# Altium footprint library RES100.PcbLib: 1 footprints
Each footprint in its own frame and in the unit in brackets; x right, y up, seen from the top. Pads: shape width x height; smd on the part's side, far side on the other; paste and mask are expansions set on the pad; w line width, h text height; cw(c..) or ccw(c..) is an arc to the next point about the centre after c.
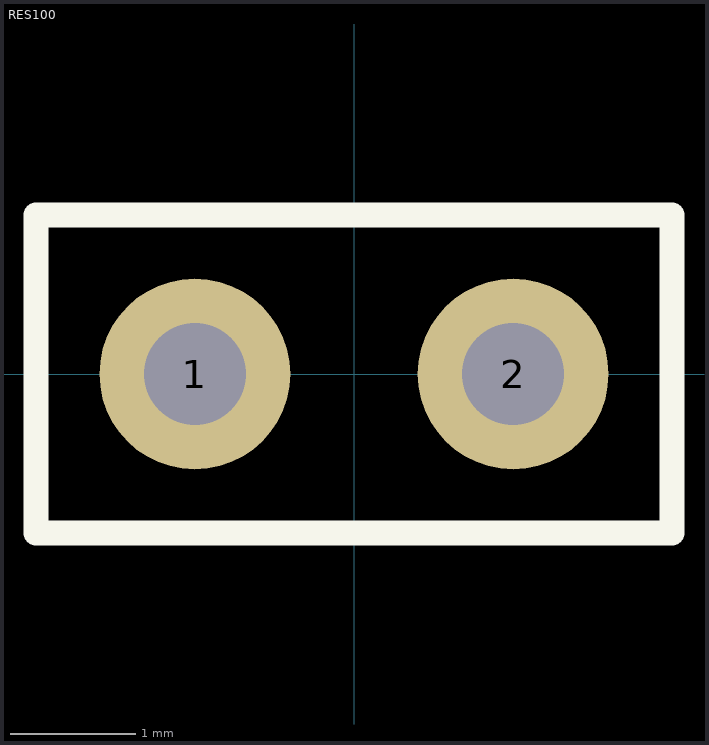
[diagram p0: the footprint, top view; thin cyan lines are the x and y axes]

## RES100 [mil]
pads (2):
  round 60 hole 32: 1(-50,0) 2(50,0)
Top Overlay:
  lines w7.87: -100,-50 100,-50 100,50 -100,50 -100,-50
3D body: height 62.17, standoff -282.32, extent -59.15,-36 87,36.48